# Altium footprint library CeleronLib_Connect.PcbLib: 219 footprints (part 6 of 14)
Each footprint in its own frame and in the unit in brackets; x right, y up, seen from the top. Pads: shape width x height; smd on the part's side, far side on the other; paste and mask are expansions set on the pad; w line width, h text height; cw(c..) or ccw(c..) is an arc to the next point about the centre after c.
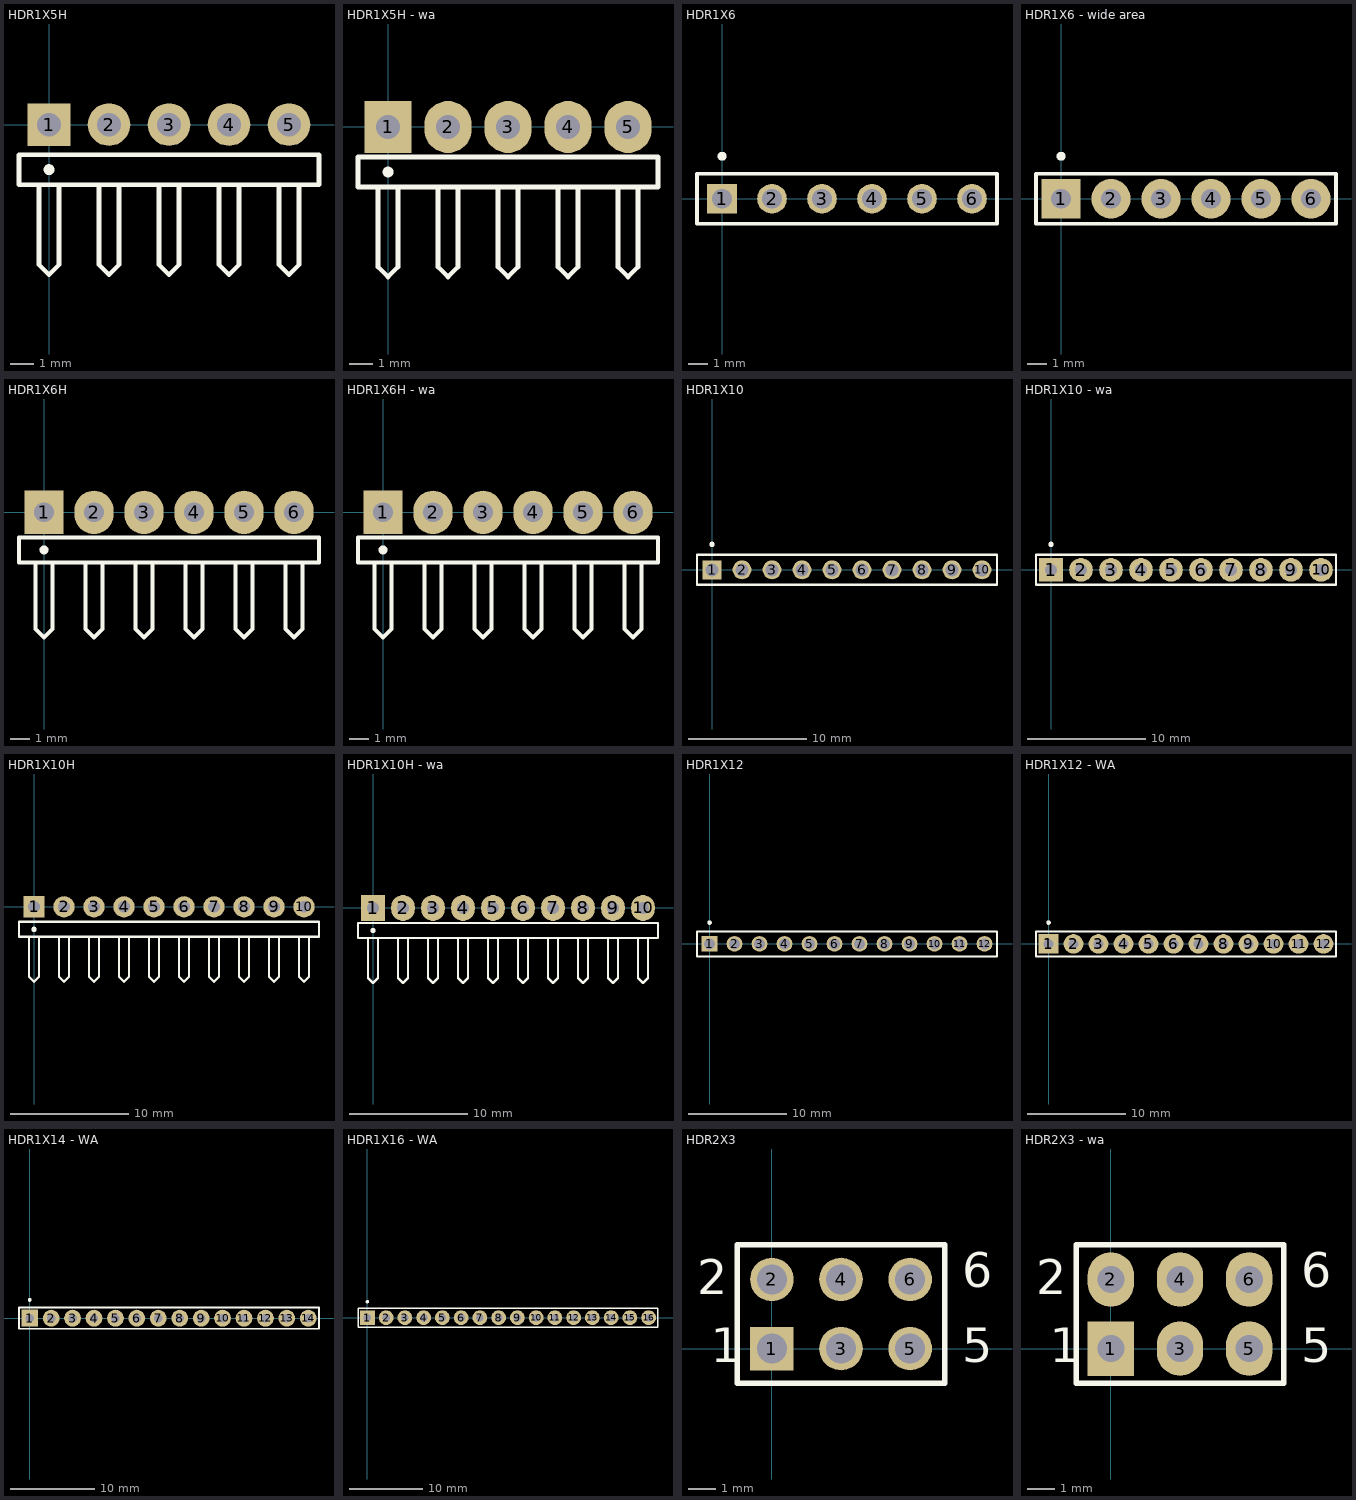
[diagram p5: the footprints below, top view; thin cyan lines are the x and y axes]

## HDR1X5H [mm] "Connector; Header; 5 Position; Right Angle"
height 5
pads (5):
  rect 1.8x1.8 hole 1: 1(0,0)
  round 1.8 hole 1: 2(2.54,0) 3(5.08,0) 4(7.62,0) 5(10.16,0)
Top Overlay:
  circle w0.254: c0,-1.905 r0.102
  lines w0.2: -0.423,-2.54 -0.423,-5.927 0,-6.35 0.423,-5.927 0.423,-2.54 ; 2.117,-2.54 2.117,-5.927 2.54,-6.35 2.963,-5.927 2.963,-2.54 ; 4.657,-2.54 4.657,-5.927 5.08,-6.35 5.503,-5.927 5.503,-2.54 ; 7.197,-2.54 7.197,-5.927 7.62,-6.35 8.043,-5.927 8.043,-2.54 ; 9.737,-2.54 9.737,-5.927 10.16,-6.35 10.583,-5.927 10.583,-2.54 ; -1.27,-2.54 11.43,-2.54 11.43,-1.27 -1.27,-1.27 -1.27,-2.54
3D body: height 2.54, standoff 0, extent -1.27,-11.951 11.43,0.305

## HDR1X5H - wa [mm] "Connector; Header; 5 Position; Right Angle"
height 5
pads (5):
  rect 2x2.2 hole 1: 1(0,0)
  oval 2x2.2 hole 1: 2(2.54,0) 3(5.08,0) 4(7.62,0) 5(10.16,0)
Top Overlay:
  circle w0.254: c0,-1.905 r0.102
  lines w0.2: -0.423,-2.54 -0.423,-5.927 0,-6.35 0.423,-5.927 0.423,-2.54 ; 2.117,-2.54 2.117,-5.927 2.54,-6.35 2.963,-5.927 2.963,-2.54 ; 4.657,-2.54 4.657,-5.927 5.08,-6.35 5.503,-5.927 5.503,-2.54 ; 7.197,-2.54 7.197,-5.927 7.62,-6.35 8.043,-5.927 8.043,-2.54 ; 9.737,-2.54 9.737,-5.927 10.16,-6.35 10.583,-5.927 10.583,-2.54 ; -1.27,-2.54 -1.27,-1.27 11.43,-1.27 11.43,-2.54 -1.27,-2.54
3D body: height 2.54, standoff 0, extent -1.27,-11.9 11.43,0.356

## HDR1X6 [mm] "Connector; Header; 6 Position"
height 8.54
pads (6):
  rect 1.5x1.5 hole 1: 1(0,0)
  round 1.5 hole 1: 2(2.54,0) 3(5.08,0) 4(7.62,0) 5(10.16,0) 6(12.7,0)
Top Overlay:
  circle w0.254: c0,2.159 r0.102
  lines w0.2: -1.27,-1.27 13.97,-1.27 13.97,1.27 -1.27,1.27 -1.27,-1.27
3D body: height 8.2, standoff -3, extent 6.46,-1.2 14.08,1.298
3D body: height 8.2, standoff -3, extent -1.16,-1.2 6.46,1.298

## HDR1X6 - wide area [mm] "Connector; Header; 6 Position"
height 8.54
pads (6):
  rect 2x2 hole 1: 1(0,0)
  round 2 hole 1: 2(2.54,0) 3(5.08,0) 4(7.62,0) 5(10.16,0) 6(12.7,0)
Top Overlay:
  circle w0.254: c0,2.159 r0.102
  lines w0.2: -1.27,-1.27 -1.27,1.27 13.97,1.27 13.97,-1.27 -1.27,-1.27
3D body: height 8.2, standoff -3, extent 6.46,-1.2 14.08,1.298
3D body: height 8.2, standoff -3, extent -1.16,-1.2 6.46,1.298

## HDR1X6H [mm] "Connector; Header; 6 Position; Right Angle"
height 5
pads (6):
  rect 2x2.2 hole 1: 1(0,0)
  oval 2x2.2 hole 1: 2(2.54,0) 3(5.08,0) 4(7.62,0) 5(10.16,0) 6(12.7,0)
Top Overlay:
  circle w0.254: c0,-1.905 r0.102
  lines w0.2: -0.423,-2.54 -0.423,-5.927 0,-6.35 0.423,-5.927 0.423,-2.54 ; 2.117,-2.54 2.117,-5.927 2.54,-6.35 2.963,-5.927 2.963,-2.54 ; 4.657,-2.54 4.657,-5.927 5.08,-6.35 5.503,-5.927 5.503,-2.54 ; 7.197,-2.54 7.197,-5.927 7.62,-6.35 8.043,-5.927 8.043,-2.54 ; 9.737,-2.54 9.737,-5.927 10.16,-6.35 10.583,-5.927 10.583,-2.54 ; 12.277,-2.54 12.277,-5.927 12.7,-6.35 13.123,-5.927 13.123,-2.54 ; -1.27,-2.54 -1.27,-1.27 13.97,-1.27 13.97,-2.54 -1.27,-2.54
3D body: height 2.54, standoff 0, extent -1.27,-11.925 13.97,0.33

## HDR1X6H - wa [mm] "Connector; Header; 6 Position; Right Angle"
height 5
pads (6):
  rect 2x2.2 hole 1: 1(0,0)
  oval 2x2.2 hole 1: 2(2.54,0) 3(5.08,0) 4(7.62,0) 5(10.16,0) 6(12.7,0)
Top Overlay:
  circle w0.254: c0,-1.905 r0.102
  lines w0.2: -0.423,-2.54 -0.423,-5.927 0,-6.35 0.423,-5.927 0.423,-2.54 ; 2.117,-2.54 2.117,-5.927 2.54,-6.35 2.963,-5.927 2.963,-2.54 ; 4.657,-2.54 4.657,-5.927 5.08,-6.35 5.503,-5.927 5.503,-2.54 ; 7.197,-2.54 7.197,-5.927 7.62,-6.35 8.043,-5.927 8.043,-2.54 ; 9.737,-2.54 9.737,-5.927 10.16,-6.35 10.583,-5.927 10.583,-2.54 ; 12.277,-2.54 12.277,-5.927 12.7,-6.35 13.123,-5.927 13.123,-2.54 ; -1.27,-2.54 -1.27,-1.27 13.97,-1.27 13.97,-2.54 -1.27,-2.54
3D body: height 2.54, standoff 0, extent -1.27,-11.925 13.97,0.33

## HDR1X10 [mm] "Connector; Header; 10 Position"
height 8.54
pads (10):
  rect 1.6x1.6 hole 1.1: 1(0,0)
  round 1.6 hole 1.1: 2(2.54,0) 3(5.08,0) 4(7.62,0) 5(10.16,0) 6(12.7,0) 7(15.24,0) 8(17.78,0) 9(20.32,0) 10(22.86,0)
Top Overlay:
  circle w0.254: c0,2.159 r0.102
  lines w0.2: -1.27,-1.27 -1.27,1.27 0.635,1.27 24.13,1.27 24.13,-1.27 -1.27,-1.27
3D body: height 8.61, standoff -2.99, extent 6.47,-1.242 16.63,1.256
3D body: height 8.61, standoff -2.99, extent -1.15,-1.242 9.01,1.256
3D body: height 8.61, standoff -2.99, extent 14.09,-1.242 24.25,1.256

## HDR1X10 - wa [mm] "Connector; Header; 10 Position"
height 8.54
pads (10):
  rect 2x2 hole 1: 1(0,0)
  round 2 hole 1: 2(2.54,0) 3(5.08,0) 4(7.62,0) 5(10.16,0) 6(12.7,0) 7(15.24,0) 8(17.78,0) 9(20.32,0) 10(22.86,0)
Top Overlay:
  circle w0.254: c0,2.159 r0.102
  lines w0.2: -1.27,-1.27 24.13,-1.27 24.13,1.27 0.635,1.27 -1.27,1.27 -1.27,-1.27
3D body: height 8.61, standoff -2.99, extent 14.09,-1.242 24.25,1.256
3D body: height 8.61, standoff -2.99, extent -1.15,-1.242 9.01,1.256
3D body: height 8.61, standoff -2.99, extent 6.47,-1.242 16.63,1.256

## HDR1X10H [mm] "Connector; Header; 10 Position; Right Angle"
height 5
pads (10):
  rect 1.8x1.8 hole 1: 1(0,0)
  round 1.8 hole 1: 2(2.54,0) 3(5.08,0) 4(7.62,0) 5(10.16,0) 6(12.7,0) 7(15.24,0) 8(17.78,0) 9(20.32,0) 10(22.86,0)
Top Overlay:
  circle w0.254: c0,-1.905 r0.102
  lines w0.2: -0.423,-2.54 -0.423,-5.927 0,-6.35 0.423,-5.927 0.423,-2.54 ; 2.117,-2.54 2.117,-5.927 2.54,-6.35 2.963,-5.927 2.963,-2.54 ; 4.657,-2.54 4.657,-5.927 5.08,-6.35 5.503,-5.927 5.503,-2.54 ; 7.197,-2.54 7.197,-5.927 7.62,-6.35 8.043,-5.927 8.043,-2.54 ; 9.737,-2.54 9.737,-5.927 10.16,-6.35 10.583,-5.927 10.583,-2.54 ; 12.277,-2.54 12.277,-5.927 12.7,-6.35 13.123,-5.927 13.123,-2.54 ; 14.817,-2.54 14.817,-5.927 15.24,-6.35 15.663,-5.927 15.663,-2.54 ; 17.357,-2.54 17.357,-5.927 17.78,-6.35 18.203,-5.927 18.203,-2.54 ; 19.897,-2.54 19.897,-5.927 20.32,-6.35 20.743,-5.927 20.743,-2.54 ; 22.437,-2.54 22.437,-5.927 22.86,-6.35 23.283,-5.927 23.283,-2.54 ; -1.27,-2.54 24.13,-2.54 24.13,-1.27 -1.27,-1.27 -1.27,-2.54
3D body: height 2.54, standoff 0, extent -1.27,-11.938 24.13,0.317

## HDR1X10H - wa [mm] "Connector; Header; 10 Position; Right Angle"
height 5
pads (10):
  rect 2x2.2 hole 1: 1(0,0)
  oval 2x2.2 hole 1: 2(2.54,0) 3(5.08,0) 4(7.62,0) 5(10.16,0) 6(12.7,0) 7(15.24,0) 8(17.78,0) 9(20.32,0) 10(22.86,0)
Top Overlay:
  circle w0.254: c0,-1.905 r0.102
  lines w0.2: -0.423,-2.54 -0.423,-5.927 0,-6.35 0.423,-5.927 0.423,-2.54 ; 2.117,-2.54 2.117,-5.927 2.54,-6.35 2.963,-5.927 2.963,-2.54 ; 4.657,-2.54 4.657,-5.927 5.08,-6.35 5.503,-5.927 5.503,-2.54 ; 7.197,-2.54 7.197,-5.927 7.62,-6.35 8.043,-5.927 8.043,-2.54 ; 9.737,-2.54 9.737,-5.927 10.16,-6.35 10.583,-5.927 10.583,-2.54 ; 12.277,-2.54 12.277,-5.927 12.7,-6.35 13.123,-5.927 13.123,-2.54 ; 14.817,-2.54 14.817,-5.927 15.24,-6.35 15.663,-5.927 15.663,-2.54 ; 17.357,-2.54 17.357,-5.927 17.78,-6.35 18.203,-5.927 18.203,-2.54 ; 19.897,-2.54 19.897,-5.927 20.32,-6.35 20.743,-5.927 20.743,-2.54 ; 22.437,-2.54 22.437,-5.927 22.86,-6.35 23.283,-5.927 23.283,-2.54 ; -1.27,-2.54 24.13,-2.54 24.13,-1.27 -1.27,-1.27 -1.27,-2.54
3D body: height 2.54, standoff 0, extent -1.27,-11.938 24.13,0.317

## HDR1X12 [mm] "Connector; Header; 12 Position"
height 8.54
pads (12):
  rect 1.6x1.6 hole 1.1: 1(0,0)
  round 1.6 hole 1.1: 2(2.54,0) 3(5.08,0) 4(7.62,0) 5(10.16,0) 6(12.7,0) 7(15.24,0) 8(17.78,0) 9(20.32,0) 10(22.86,0) 11(25.4,0) 12(27.94,0)
Top Overlay:
  circle w0.254: c0,2.159 r0.102
  lines w0.2: -1.27,-1.27 -1.27,1.27 0.635,1.27 29.21,1.27 29.21,-1.27 -1.27,-1.27
3D body: height 8.61, standoff -2.99, extent -1.15,-1.242 9.01,1.256
3D body: height 8.61, standoff -2.99, extent 9.01,-1.242 19.17,1.256
3D body: height 8.61, standoff -2.99, extent 19.17,-1.242 29.33,1.256

## HDR1X12 - WA [mm] "Connector; Header; 12 Position"
height 8.54
pads (12):
  rect 2x2 hole 1: 1(0,0)
  round 2 hole 1: 2(2.54,0) 3(5.08,0) 4(7.62,0) 5(10.16,0) 6(12.7,0) 7(15.24,0) 8(17.78,0) 9(20.32,0) 10(22.86,0) 11(25.4,0) 12(27.94,0)
Top Overlay:
  circle w0.254: c0,2.159 r0.102
  lines w0.2: -1.27,-1.27 -1.27,1.27 0.635,1.27 29.21,1.27 29.21,-1.27 -1.27,-1.27
3D body: height 8.61, standoff -2.99, extent -1.15,-1.242 9.01,1.256
3D body: height 8.61, standoff -2.99, extent 9.01,-1.242 19.17,1.256
3D body: height 8.61, standoff -2.99, extent 19.17,-1.242 29.33,1.256

## HDR1X14 - WA [mm] "Connector; Header; 14 Position"
height 8.54
pads (14):
  rect 2x2 hole 1: 1(0,0)
  round 2 hole 1: 2(2.54,0) 3(5.08,0) 4(7.62,0) 5(10.16,0) 6(12.7,0) 7(15.24,0) 8(17.78,0) 9(20.32,0) 10(22.86,0) 11(25.4,0) 12(27.94,0) 13(30.48,0) 14(33.02,0)
Top Overlay:
  circle w0.254: c0,2.159 r0.102
  lines w0.2: -1.27,-1.27 34.29,-1.27 34.29,1.27 0.635,1.27 -1.27,1.27 -1.27,-1.27
3D body: height 8.61, standoff -2.99, extent 24.25,-1.242 34.41,1.256
3D body: height 8.61, standoff -2.99, extent 19.17,-1.242 29.33,1.256
3D body: height 8.61, standoff -2.99, extent 9.01,-1.242 19.17,1.256
3D body: height 8.61, standoff -2.99, extent -1.15,-1.242 9.01,1.256

## HDR1X16 - WA [mm] "Connector; Header; 16 Position"
height 8.54
pads (16):
  rect 2x2 hole 1: 1(0,0)
  round 2 hole 1: 2(2.54,0) 3(5.08,0) 4(7.62,0) 5(10.16,0) 6(12.7,0) 7(15.24,0) 8(17.78,0) 9(20.32,0) 10(22.86,0) 11(25.4,0) 12(27.94,0) 13(30.48,0) 14(33.02,0) 15(35.56,0) 16(38.1,0)
Top Overlay:
  circle w0.254: c0,2.159 r0.102
  lines w0.2: -1.27,-1.27 39.37,-1.27 39.37,1.27 0.635,1.27 -1.27,1.27 -1.27,-1.27
3D body: height 8.61, standoff -2.99, extent 29.33,-1.242 39.49,1.256
3D body: height 8.61, standoff -2.99, extent 19.17,-1.242 29.33,1.256
3D body: height 8.61, standoff -2.99, extent 9.01,-1.242 19.17,1.256
3D body: height 8.61, standoff -2.99, extent -1.15,-1.242 9.01,1.256

## HDR2X3 [mm] "Connector; Header; 3x2 Position"
height 8.54
pads (6):
  rect 1.6x1.6 hole 1.1: 1(0,0)
  round 1.6 hole 1.1: 2(0,2.54) 3(2.54,0) 4(2.54,2.54) 5(5.08,0) 6(5.08,2.54)
Top Overlay:
  lines w0.2: 1.482,-1.27 6.35,-1.27 ; 6.35,-1.27 -1.27,-1.27 -1.27,3.81 6.35,3.81 6.35,-1.27
  text "1" at -2.25,-0.5 h1.27
  text "2" at -2.75,2 h1.27
  text "5" at 7,-0.5 h1.27
  text "6" at 7,2.25 h1.27
3D body: height 8.2, standoff -3, extent -1.16,1.34 6.46,3.838
3D body: height 8.2, standoff -3, extent -1.16,-1.2 6.46,1.298

## HDR2X3 - wa [mm] "Connector; Header; 3x2 Position"
height 8.54
pads (6):
  rect 1.7x2 hole 1: 1(0,0)
  oval 1.7x2 hole 1: 2(0,2.54) 3(2.54,0) 4(2.54,2.54) 5(5.08,0) 6(5.08,2.54)
Top Overlay:
  lines w0.2: 1.482,-1.27 6.35,-1.27 ; 6.35,-1.27 6.35,3.81 -1.27,3.81 -1.27,-1.27 6.35,-1.27
  text "6" at 7,2.25 h1.27
  text "5" at 7,-0.5 h1.27
  text "2" at -2.75,2 h1.27
  text "1" at -2.25,-0.5 h1.27
3D body: height 8.2, standoff -3, extent -1.16,1.34 6.46,3.838
3D body: height 8.2, standoff -3, extent -1.16,-1.2 6.46,1.298